# Altium footprint library FIL_0603USB-142MLC.PcbLib: 1 footprints
Each footprint in its own frame and in the unit in brackets; x right, y up, seen from the top. Pads: shape width x height; smd on the part's side, far side on the other; paste and mask are expansions set on the pad; w line width, h text height; cw(c..) or ccw(c..) is an arc to the next point about the centre after c.
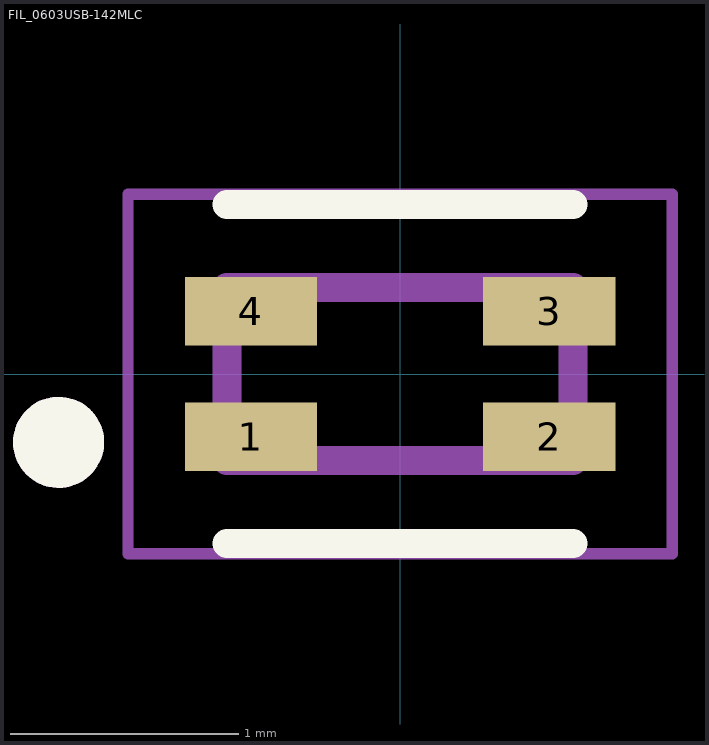
[diagram p0: the footprint, top view; thin cyan lines are the x and y axes]

## FIL_0603USB-142MLC [mm]
pads (4):
  rect 0.58x0.3 smd: 1(-0.655,-0.275) 2(0.655,-0.275) 3(0.655,0.275) 4(-0.655,0.275)
Top Overlay:
  circle w0.2: c-1.5,-0.3 r0.1
  lines w0.127: -0.76,-0.745 0.76,-0.745 ; -0.76,0.745 0.76,0.745
Mechanical 13:
  circle w0.2: c-1.5,-0.3 r0.1
  lines w0.127: -0.76,-0.38 -0.76,0.38 0.76,0.38 0.76,-0.38 -0.76,-0.38
Mechanical 15:
  lines w0.05: -1.195,-0.79 -1.195,0.79 1.195,0.79 1.195,-0.79 -1.195,-0.79